# Altium footprint library Low_PWR.PcbLib: 51 footprints (part 3 of 4)
Each footprint in its own frame and in the unit in brackets; x right, y up, seen from the top. Pads: shape width x height; smd on the part's side, far side on the other; paste and mask are expansions set on the pad; w line width, h text height; cw(c..) or ccw(c..) is an arc to the next point about the centre after c.
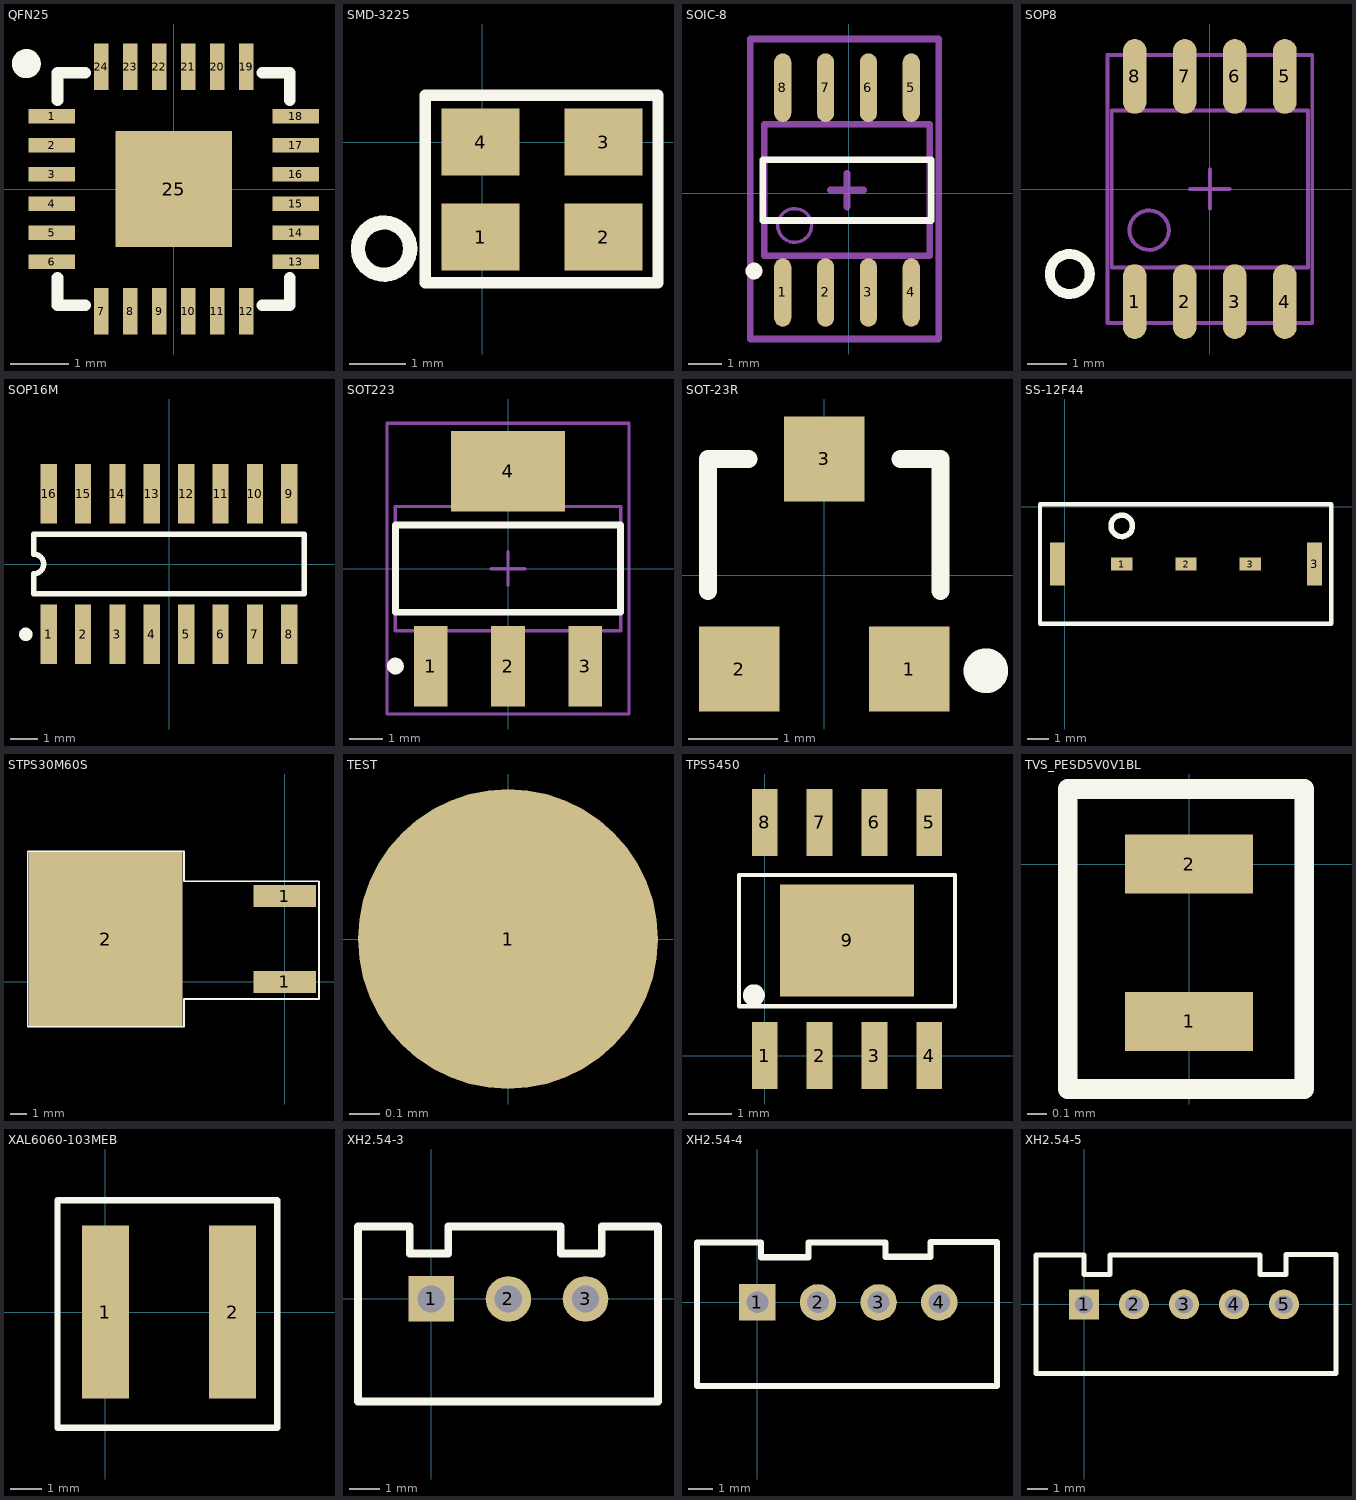
[diagram p2: the footprints below, top view; thin cyan lines are the x and y axes]

## QFN25 [mm]
pads (25):
  rect 0.8x0.25 smd: 1(-2.101,1.25) 2(-2.101,0.75) 3(-2.101,0.25) 4(-2.101,-0.25) 5(-2.101,-0.75) 6(-2.101,-1.25) 13(2.101,-1.25) 14(2.101,-0.75) 15(2.101,-0.25) 16(2.101,0.25) 17(2.101,0.75) 18(2.101,1.25)
  rect 0.25x0.8 smd: 7(-1.25,-2.101) 8(-0.75,-2.101) 9(-0.25,-2.101) 10(0.25,-2.101) 11(0.75,-2.101) 12(1.25,-2.101) 19(1.25,2.101) 20(0.75,2.101) 21(0.25,2.101) 22(-0.25,2.101) 23(-0.75,2.101) 24(-1.25,2.101)
  rect 2x2 smd paste+0: 25(0,0)
Top Overlay:
  circle w0.25: c-2.538,2.159 r0.125
  lines w0.2: -2,-1.525 -2,-2 -1.525,-2 ; -2,1.525 -2,2 -1.525,2 ; 1.525,-2 2,-2 2,-1.525 ; 1.525,2 2,2 2,1.525

## SMD-3225 [mm]
pads (4):
  rect 1.4x1.2 smd: 1(-0.025,-1.7) 2(2.175,-1.7) 3(2.175,0) 4(-0.025,0)
Top Overlay:
  circle w0.254: c-1.753,-1.905 r0.467
  lines w0.2: -1.016,-2.515 3.15,-2.515 3.15,0.838 -1.016,0.838 -1.016,-2.515

## SOIC-8 [mil]
pads (8):
  oval 20x80 smd: 1(-77.09,-115.71) 2(-27.09,-115.71) 3(22.91,-115.71) 4(72.91,-115.71) 5(72.91,123.27) 6(22.91,123.27) 7(-27.09,123.27) 8(-77.09,123.27)
Top Overlay:
  circle w9.84: c-110.55,-90.71 r4.92
  lines w7.87: -100.51,-31.65 96.34,-31.65 96.34,39.21 -100.51,39.21 -100.51,-31.65
Mechanical 13:
  circle w3.94: c-63.11,-37.56 r19.68
  lines w7.87: -98.54,-72.99 94.37,-72.99 94.37,80.55 -98.54,80.55 -98.54,-72.99
Mechanical 15:
  lines w7.87: -21.77,3.78 17.6,3.78 ; -2.09,-15.91 -2.09,23.46 ; -115,-170 105,-170 105,180 -115,180 -115,-170
3D body "SO-8.STEP": height 66.93, standoff 0, extent -96.46,-113.1 96.46,123.12

## SOP8 [mm]
height 1.75
pads (8):
  oval 0.6x1.9 smd: 1(-1.905,-2.858) 2(-0.635,-2.858) 3(0.635,-2.858) 4(1.905,-2.858) 5(1.905,2.858) 6(0.635,2.858) 7(-0.635,2.858) 8(-1.905,2.858)
Top Overlay:
  circle w0.254: c-3.556,-2.159 r0.508
Mechanical 13:
  circle w0.1: c-1.54,-1.045 r0.5
  lines w0.1: -2.49,-1.995 2.49,-1.995 2.49,1.995 -2.49,1.995 -2.49,-1.995
Mechanical 15:
  lines w0.1: -0.5,0 0.5,0 ; 0,-0.5 0,0.5 ; -2.6,-3.4 2.6,-3.4 2.6,3.4 -2.6,3.4 -2.6,-3.4
3D body: height 1.75, standoff 0.1, extent -2.49,-1.995 2.49,1.995

## SOP16M [mm] "Small Outline; 16 Leads; Body Width 3.9 mm; Pitch 1.27 mm"
height 1.75
pads (16):
  rect 0.6x2.2 smd: 1(-4.445,-2.6) 2(-3.175,-2.6) 3(-1.905,-2.6) 4(-0.635,-2.6) 5(0.635,-2.6) 6(1.905,-2.6) 7(3.175,-2.6) 8(4.445,-2.6) 9(4.445,2.6) 10(3.175,2.6) 11(1.905,2.6) 12(0.635,2.6) 13(-0.635,2.6) 14(-1.905,2.6) 15(-3.175,2.6) 16(-4.445,2.6)
Top Overlay:
  circle w0.25: c-5.295,-2.6 r0.125
  lines w0.2: -5,-1.1 5,-1.1 5,1.1 -5,1.1 -5,0.367 cw(c-5,0) -5,-0.367 -5,-1.1

## SOT223 [mm]
height 1.75
pads (4):
  rect 1x2.4 smd: 1(-2.3,-2.9) 2(0,-2.9) 3(2.3,-2.9)
  rect 3.4x2.4 smd: 4(0,2.9)
Top Overlay:
  circle w0.25: c-3.35,-2.9 r0.125
  lines w0.2: -3.35,-1.3 3.35,-1.3 3.35,1.3 -3.35,1.3 -3.35,-1.3
Mechanical 13:
  lines w0.1: -3.35,-1.85 3.35,-1.85 3.35,1.85 -3.35,1.85 -3.35,-1.85
Mechanical 15:
  lines w0.1: -0.5,0 0.5,0 ; 0,-0.5 0,0.5 ; -3.6,-4.325 3.6,-4.325 3.6,4.325 -3.6,4.325 -3.6,-4.325
3D body: height 1.8, standoff 0.02, extent -3.35,-1.85 3.35,1.85

## SOT-23R [mm] "SOT-23; 3 Leads; Body 3.0 x 2.5 mm, inc. leads (LxW max)"
height 1.2
pads (3):
  rect 0.9x0.95 smd: 1(0.95,-1.048) 2(-0.95,-1.048) 3(0,1.302)
Top Overlay:
  circle w0.25: c1.805,-1.067 r0.125
  lines w0.2: -1.3,-0.173 -1.3,1.302 -0.85,1.302 ; 0.85,1.302 1.3,1.302 1.3,-0.173

## SS-12F44 [mm]
pads (5):
  rect 1x0.6 smd: 1(2.667,-2.667) 2(5.667,-2.667) 3(8.667,-2.667)
  rect 0.7x2 smd: 3(11.667,-2.667) ""(-0.333,-2.667)
Top Overlay:
  circle w0.254: c2.667,-0.889 r0.5
  lines w0.2: -1.143,-5.461 -1.143,0.127 12.446,0.127 12.446,-5.461 -1.143,-5.461

## STPS30M60S [mm]
pads (3):
  rect 3.7x1.3 smd: 1(0,0) 1(0,5.08)
  rect 9.1x10.3 smd: 2(-10.6,2.54)
Top Overlay:
  lines w0.1: -15.24,-2.667 -15.24,7.747 -5.969,7.747 -5.969,5.969 2.032,5.969 2.032,-1.016 -5.969,-1.016 -5.969,-2.667 -15.24,-2.667

## TEST [mm]
pads (1):
  round 1 smd: 1(0,0)

## TPS5450 [mm]
pads (9):
  rect 0.6x1.55 smd: 1(0,0) 2(1.27,0) 3(2.54,0) 4(3.81,0) 5(3.81,5.4) 6(2.54,5.4) 7(1.27,5.4) 8(0,5.4)
  rect 3.1x2.6 smd: 9(1.905,2.667)
Top Overlay:
  circle w0.254: c-0.254,1.397 r0.127
  lines w0.1: -0.595,1.143 -0.595,4.181 1.905,4.181 4.405,4.181 4.405,1.143 1.905,1.143 -0.595,1.143

## TVS_PESD5V0V1BL [mm]
pads (2):
  rect 0.65x0.3 smd: 1(0,-0.8) 2(0,0)
Top Overlay:
  lines w0.1: -0.616,-1.143 0.584,-1.143 0.584,0.381 -0.616,0.381 -0.616,-1.143

## XAL6060-103MEB [mm]
pads (2):
  rect 1.5x5.5 smd: 1(0,0) 2(4.04,0)
Top Overlay:
  lines w0.2: -1.524,-3.683 -1.524,3.556 5.461,3.556 5.461,-3.683 -1.524,-3.683

## XH2.54-3 [mm]
pads (3):
  rect 1.5x1.5 hole 0.9: 1(0,0)
  round 1.5 hole 0.9: 2(2.54,0) 3(5.08,0)
Top Overlay:
  lines w0.254: -2.413,-3.378 7.468,-3.378 7.468,2.388 5.613,2.388 5.613,1.5 4.267,1.5 4.267,2.388 0.559,2.388 0.559,1.5 -0.711,1.5 -0.711,2.388 -2.413,2.388 -2.413,-3.378
3D body "3pin-2.5.step": height 7, standoff -3.4, extent -2.41,-3.408 7.49,2.342

## XH2.54-4 [mm]
pads (4):
  rect 1.5x1.5 hole 0.9: 1(0,0)
  round 1.5 hole 0.9: 2(2.5,0) 3(5,0) 4(7.5,0)
Top Overlay:
  lines w0.254: -2.489,-3.454 -2.489,2.464 0.152,2.464 0.152,1.854 2.108,1.854 2.108,2.464 5.283,2.464 5.283,1.88 7.137,1.88 7.137,2.489 9.881,2.489 9.881,-3.454 -2.489,-3.454
3D body "4pin-2.5.step": height 7, standoff -3.4, extent -2.466,-3.383 9.934,2.367

## XH2.54-5 [mm]
pads (5):
  rect 1.5x1.5 hole 0.9: 1(0,0)
  round 1.5 hole 0.9: 2(2.5,0) 3(5,0) 4(7.5,0) 5(10,0)
Top Overlay:
  lines w0.254: 1.3,2.438 1.3,1.5 0,1.5 0,2.464 -2.4,2.464 -2.4,-3.454 12.6,-3.454 12.6,2.489 10.1,2.489 10.1,1.5 8.8,1.5 8.8,2.464 1.3,2.464
3D body "User Library-jst-b5b-xh-a.STEP": height 7, standoff -3.4, extent -2.511,-3.388 12.519,2.362